# Altium footprint library 2.4 GHz Low Pass Filter.PcbLib: 1 footprints
Each footprint in its own frame and in the unit in brackets; x right, y up, seen from the top. Pads: shape width x height; smd on the part's side, far side on the other; paste and mask are expansions set on the pad; w line width, h text height; cw(c..) or ccw(c..) is an arc to the next point about the centre after c.
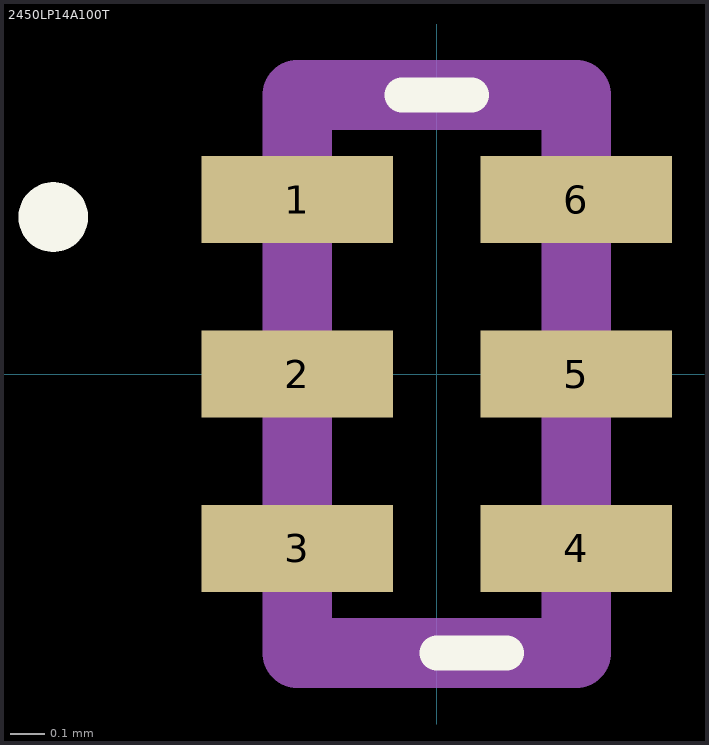
[diagram p0: the footprint, top view; thin cyan lines are the x and y axes]

## 2450LP14A100T [mm]
pads (6):
  rect 0.55x0.25 smd: 1(-0.4,0.5) 2(-0.4,0) 3(-0.4,-0.5) 4(0.4,-0.5) 5(0.4,0) 6(0.4,0.5)
Top Overlay:
  lines w0.1: -0.1,0.8 0.1,0.8 ; 0,-0.8 0.2,-0.8 ; -1.1,0.4 ccw(c-1.1,0.45) -1.1,0.5 ccw(c-1.1,0.45) -1.1,0.4
Mechanical 13:
  lines w0.2: -0.4,-0.8 -0.4,0.8 0.4,0.8 0.4,-0.8 -0.4,-0.8
3D body "2450LP14A100T.stp": height 0.8, standoff 0, extent -0.65,-0.8 0.65,0.8